# EAGLE library part LM2575SX-3.3/NOPB (library Hexabitz)
Step-Down Voltage Regulator
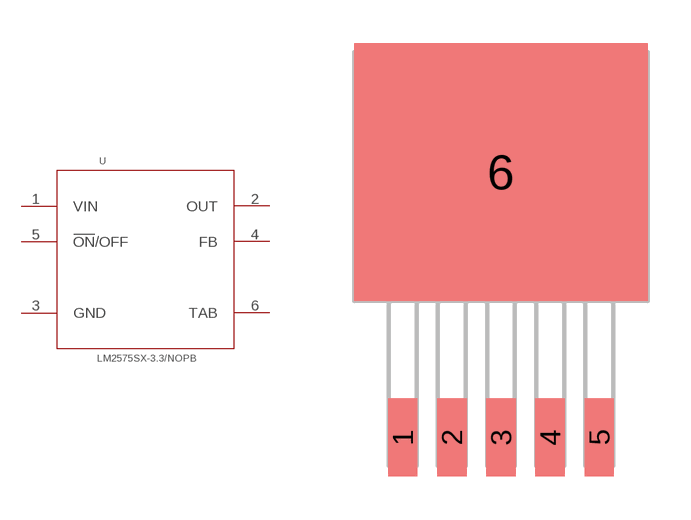
[diagram p11: symbol with the pads of TO170P1435X457-6N; footprint TO170P1435X457-6N]

Designator prefix U

## LM2575SX-3.3/NOPB (DESCRIPTION: Conv DC-DC 4V to 40V Step Down Single-Out 3.3V 1A 6-Pin_5+Tab_ TO-263 T/R; DIGI-KEY_PART_NUMBER: LM2575SX-3.3/NOPBCT-ND; DIGI-KEY_PURCHASE_URL: https://www.digikey.com/product-detail/en/texas-instruments/LM2575SX-3.3-NOPB/LM2575SX-3.3-NOPBCT-ND/3526855?utm_source=snapeda&utm_medium=aggregator&utm_campaign=symbol; MF: Texas Instruments; MP: LM2575SX-3.3/NOPB; PACKAGE: TO-263-6 Texas Instruments)  [TO170P1435X457-6N]
1  VIN  pwr
2  OUT  out
3  GND  pas
4  FB  in
5  ON/OFF  in
6  TAB  pas

## Footprint TO170P1435X457-6N (pad centres in mm)
smd 1.016 x 2.692: 1 -3.404,-9.042; 2 -1.702,-9.042; 3 0,-9.042; 4 1.702,-9.042; 5 3.404,-9.042
smd 10.16 x 8.941: 6 0,0.152